# Altium schematic symbol library ARJM11D7-009-AB-EW2.SchLib: 1 symbol
Pins are listed as number, name and electrical type; pins without a type are passive.

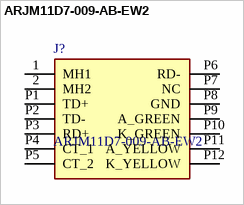
[diagram p0: symbol ARJM11D7-009-AB-EW2]

## ARJM11D7-009-AB-EW2
designator J?
Telecom and Datacom Connector, 8 Contact(s), Female, Right Angle, Solder Terminal, Locking, Jack; Manufacturer_Name: ABRACON; Geometry.Height: 14.05mm; Mouser Part Number: 815-RJM11D7009ABEW2; Mouser Price/Stock: https://www.mouser.co.uk/ProductDetail/ABRACON/ARJM11D7-009-AB-EW2?qs=YCa%2FAAYMW01wgGAVSiGYdQ%3D%3D; Manufacturer_Part_Number: ARJM11D7-009-AB-EW2; Datasheet Link: https://abracon.com/Magnetics/ARJM11.pdf
footprint ARJM11D7009ABEW2
pins: 1 MH1, 2 MH2, P1 TD+, P2 TD-, P3 RD+, P4 CT_1, P5 CT_2, P6 RD-, P7 NC, P8 GND, P9 A_GREEN, P10 K_GREEN, P11 A_YELLOW, P12 K_YELLOW